# Altium footprint library QFN-S.PcbLib: 1 footprints
Each footprint in its own frame and in the unit in brackets; x right, y up, seen from the top. Pads: shape width x height; smd on the part's side, far side on the other; paste and mask are expansions set on the pad; w line width, h text height; cw(c..) or ccw(c..) is an arc to the next point about the centre after c.
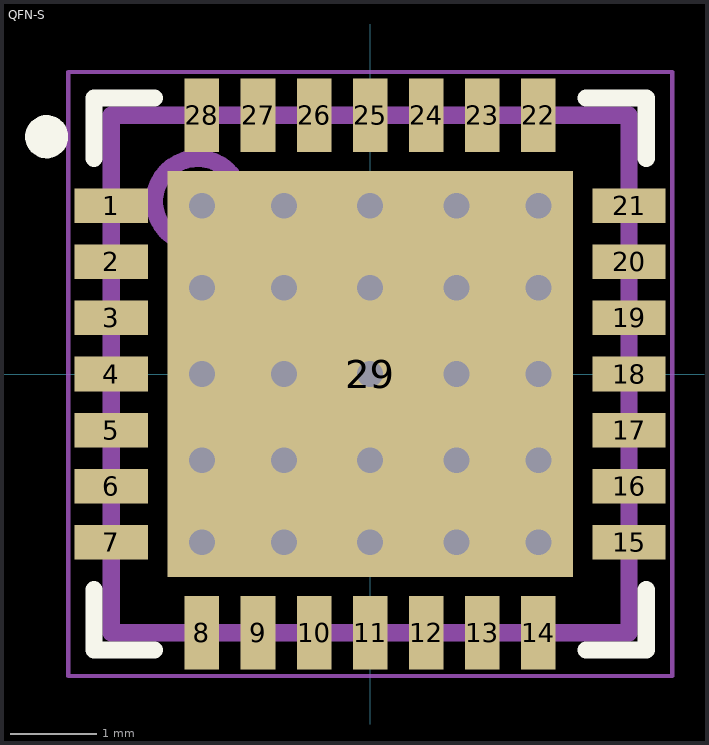
[diagram p0: the footprint, top view; thin cyan lines are the x and y axes]

## QFN-S [mm] "28-Lead Plastic Quad Flat, No Lead Package (MM) - 6x6x0.9mm Body [QFN-S] With 0.40 mm Terminal Length"
height 1
pads (29):
  rect 0.85x0.4 smd: 1(-3,1.95) 2(-3,1.3) 3(-3,0.65) 4(-3,0) 5(-3,-0.65) 6(-3,-1.3) 7(-3,-1.95) 15(3,-1.95) 16(3,-1.3) 17(3,-0.65) 18(3,0) 19(3,0.65) 20(3,1.3) 21(3,1.95)
  rect 0.4x0.85 smd: 8(-1.95,-3) 9(-1.3,-3) 10(-0.65,-3) 11(0,-3) 12(0.65,-3) 13(1.3,-3) 14(1.95,-3) 22(1.95,3) 23(1.3,3) 24(0.65,3) 25(0,3) 26(-0.65,3) 27(-1.3,3) 28(-1.95,3)
  rect 4.7x4.7 smd: 29(0,0)
via -1.95,0 diameter 0.8 hole 0.3
via -1,0 diameter 0.8 hole 0.3
via 0,0 diameter 0.8 hole 0.3
via 1,0 diameter 0.8 hole 0.3
via 0,1 diameter 0.8 hole 0.3
via 0,-1 diameter 0.8 hole 0.3
via 1,-1 diameter 0.8 hole 0.3
via 1,1 diameter 0.8 hole 0.3
via -1,1 diameter 0.8 hole 0.3
via -1,-1 diameter 0.8 hole 0.3
via -1.95,-1.95 diameter 0.8 hole 0.3
via -1.95,-1 diameter 0.8 hole 0.3
via -1.95,1 diameter 0.8 hole 0.3
via -1.95,1.95 diameter 0.8 hole 0.3
via -1,1.95 diameter 0.8 hole 0.3
via 0,1.95 diameter 0.8 hole 0.3
via 1,1.95 diameter 0.8 hole 0.3
via -1,-1.95 diameter 0.8 hole 0.3
via 0,-1.95 diameter 0.8 hole 0.3
via 1,-1.95 diameter 0.8 hole 0.3
via 1.95,-1.95 diameter 0.8 hole 0.3
via 1.95,-1 diameter 0.8 hole 0.3
via 1.95,0 diameter 0.8 hole 0.3
via 1.95,1 diameter 0.8 hole 0.3
via 1.95,1.95 diameter 0.8 hole 0.3
Top Overlay:
  circle w0.25: c-3.75,2.75 r0.125
  lines w0.2: -3.2,-2.5 -3.2,-3.2 -2.5,-3.2 ; -3.2,2.5 -3.2,3.2 -2.5,3.2 ; 2.5,-3.2 3.2,-3.2 3.2,-2.5 ; 2.5,3.2 3.2,3.2 3.2,2.5
Mechanical 7:
  circle w0.2: c-2,2 r0.5
  lines w0.05: -3.5,-3.5 3.5,-3.5 3.5,3.5 -3.5,3.5 -3.5,-3.5
  lines w0.2: -3,-3 3,-3 3,3 -3,3 -3,-3
Mechanical 15:
  lines w0.1: -0.5,0 0.5,0 ; 0,-0.5 0,0.5
3D body "User Library-QFN 28-Pin 0_65mm Pitch.STEP": height 1, standoff 0, extent -3.01,-3.01 3.01,3.01
3D body: height 0.25, standoff 0, extent 5.5,-1.5 5.5,-1.5